# Altium schematic symbol library USB Connectors.SchLib: 41 symbols
Pins are listed as number, name and electrical type; pins without a type are passive.

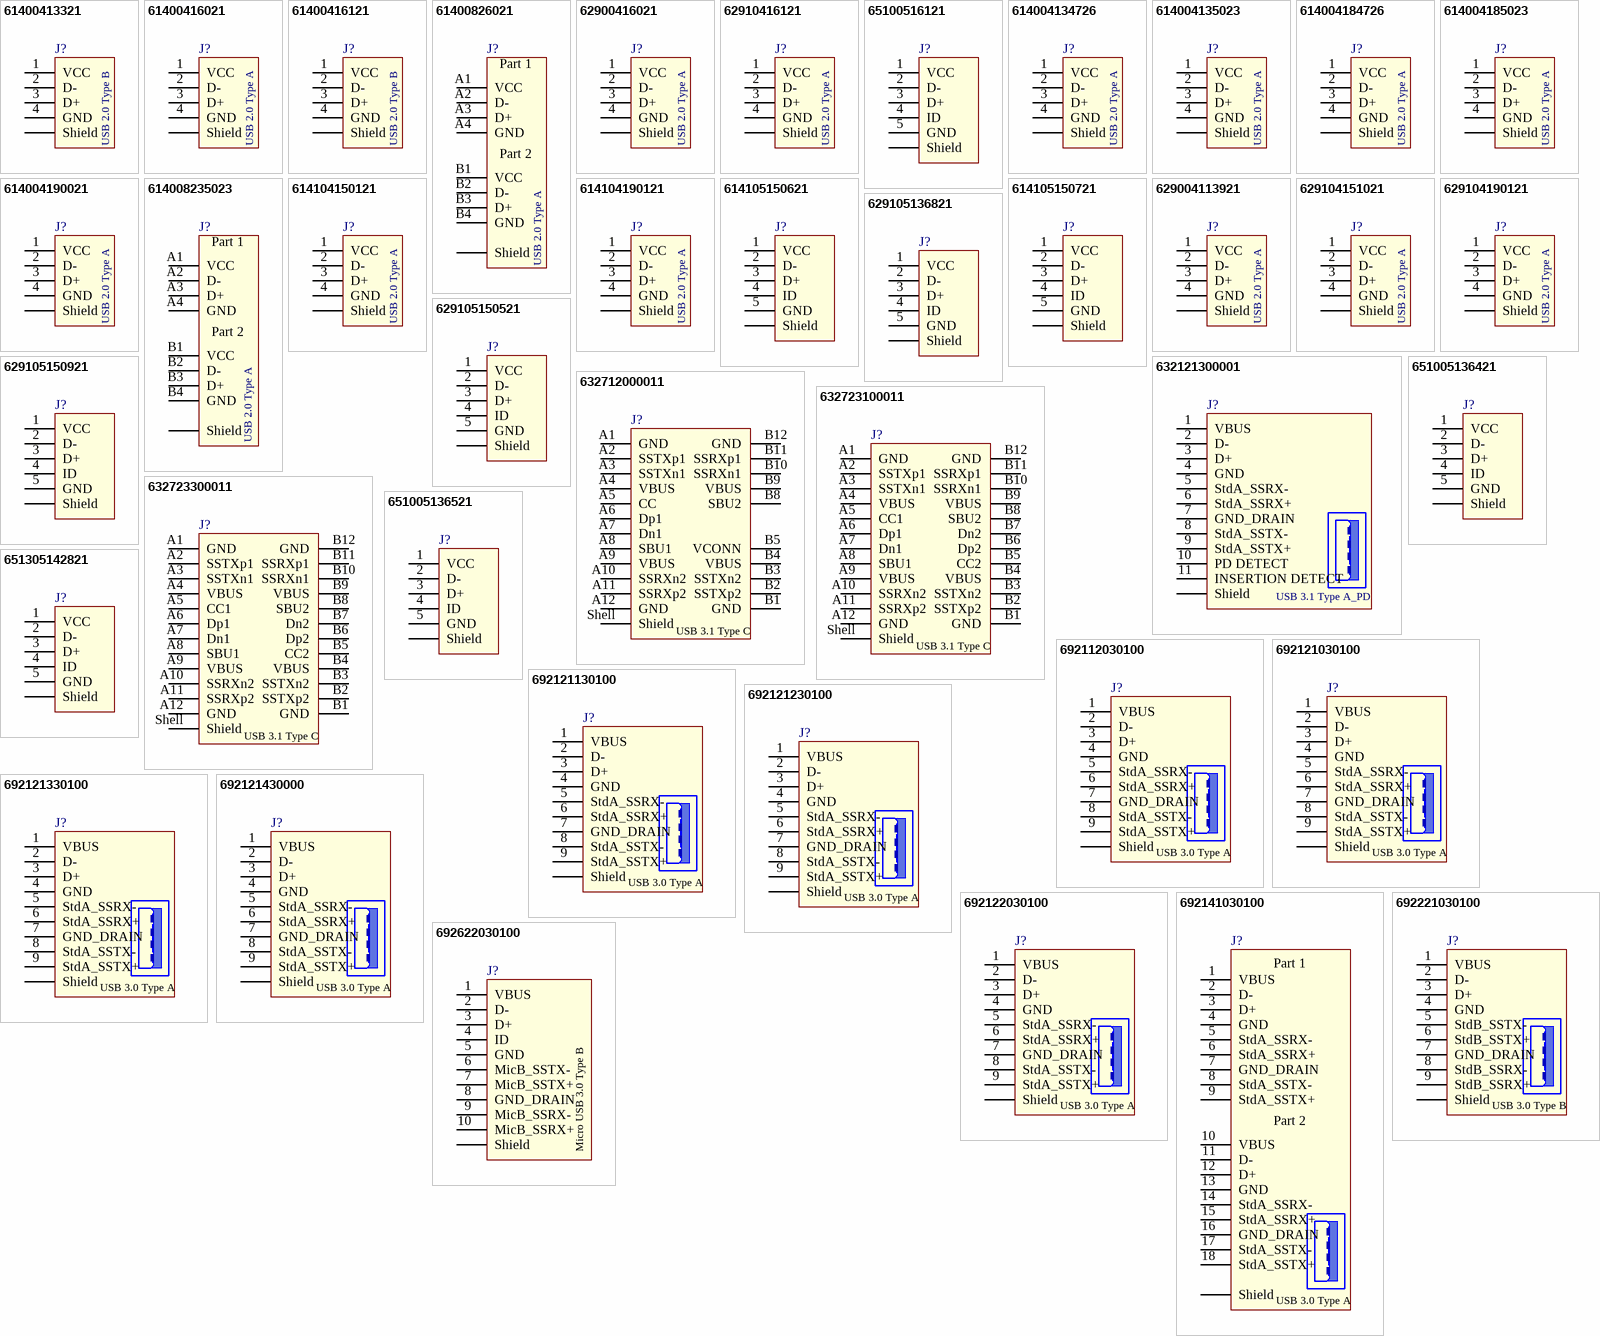
[diagram p0: symbols 61400413321 to 692622030100]

## 61400413321
designator J?
USB 2.0 Type B Vertical WR-COM; Part number: 61400413321; Vendor: Wurth Elektronik; Value: USB 2.0 Type B
footprint 61400413321 (USB 2.0 Type B Vertical)
pins: 1 VCC, 2 D-, 3 D+, 4 GND, Shell Shield

## 61400416021
designator J?
USB 2.0 Type A Horizontal WR-COM; Part number: 61400416021; Vendor: Wurth Elektronik; Value: USB 2.0 Type A
footprint 61400416021 (USB 2.0 Type A Horizontal)
pins: 1 VCC, 2 D-, 3 D+, 4 GND, Shell Shield

## 61400416121
designator J?
USB 2.0 Type B Horizontal WR-COM; Part number: 61400416121; Vendor: Wurth Elektronik; Value: USB 2.0 Type B
footprint 61400416121 (USB 2.0 Type B Horizontal)
pins: 1 VCC, 2 D-, 3 D+, 4 GND, Shell Shield

## 61400826021
designator J?
USB 2.0 Type A Horizontal Dual Stacked WR-COM; Part number: 61400826021; Vendor: Wurth Elektronik; Value: USB 2.0 Type A
footprint 61400826021 (USB 2.0 Type A Horizontal Dual Stacked)
pins: A1 VCC, A2 D-, A3 D+, A4 GND, B1 VCC, B2 D-, B3 D+, B4 GND, Shell Shield
text: Part 1; Part 2

## 62900416021
designator J?
USB 2.0 SMT Type A Horizontal WR-COM; Part number: 62900416021; Vendor: Wurth Elektronik; Value: USB 2.0 Type A
footprint 62900416021 (USB 2.0 SMT Type A Horizontal)
pins: 1 VCC, 2 D-, 3 D+, 4 GND, Shell Shield

## 62910416121
designator J?
USB 2.0 Type B SMT Horizontal WR-COM; Part number: 62910416121; Vendor: Wurth Elektronik; Value: USB 2.0 Type B
footprint 62910416121 (USB 2.0 Type B SMT Horizontal)
pins: 1 VCC, 2 D-, 3 D+, 4 GND, Shell Shield
text: USB 2.0 Type A

## 65100516121
designator J?
Mini USB 2.0 Type B SMT Horizontal 5 Contacts WR-COM; Part number: 65100516121; Vendor: Wurth Elektronik; Value: Mini USB 2.0 Type B
footprint 65100516121
pins: 1 VCC, 2 D-, 3 D+, 4 ID, 5 GND, Shell Shield

## 614004134726
designator J?
USB 2.0 Type A Up Right WR-COM; Part number: 614004134726; Vendor: Wurth Elektronik; Value: USB 2.0 Type A
footprint 614004134726 (USB 2.0 Type A Up Right)
pins: 1 VCC, 2 D-, 3 D+, 4 GND, Shell Shield

## 614004135023
designator J?
USB 2.0 Type A Vertical WR-COM; Part number: 614004135023; Vendor: Wurth Elektronik; Value: USB 2.0 Type A
footprint 614004135023 (USB 2.0 Type A Vertical)
pins: 1 VCC, 2 D-, 3 D+, 4 GND, Shell Shield

## 614004184726
designator J?
USB 2.0 Type A Up Right THT WR-COM; Part number: 614004184726; Vendor: Wurth Elektronik; Value: USB 2.0 Type A
footprint 614004184726 (USB 2.0 Type A Up Right THT)
pins: 1 VCC, 2 D-, 3 D+, 4 GND, Shell Shield

## 614004185023
designator J?
USB 2.0 Type A Vertical Short Type THT WR-COM; Part number: 614004185023; Vendor: Wurth Elektronik; Value: USB 2.0 Type A
footprint 614004185023 (USB 2.0 Type A Vertical Short Type THT)
pins: 1 VCC, 2 D-, 3 D+, 4 GND, Shell Shield

## 614004190021
designator J?
USB 2.0 Type A Horizontal THT WR-COM; Part number: 614004190021; Vendor: Wurth Elektronik; Value: USB 2.0 Type A
footprint 614004190021 (USB 2.0 Type A Horizontal THT)
pins: 1 VCC, 2 D-, 3 D+, 4 GND, Shell Shield

## 614008235023
designator J?
USB 2.0 Type A Vertical Dual WR-COM; Part number: 614008235023; Vendor: Wurth Elektronik; Value: USB 2.0 Type A
footprint 614008235023 (USB 2.0 Type A Vertical Dual)
pins: A1 VCC, A2 D-, A3 D+, A4 GND, B1 VCC, B2 D-, B3 D+, B4 GND, Shell Shield
text: Part 1; Part 2

## 614104150121
designator J?
USB 2.0 THT Type A Horizontal Slim Type WR-COM; Part number: 614104150121; Vendor: Wurth Elektronik; Value: USB 2.0 Type A
footprint 614104150121 (USB 2.0 THT Type A Horizontal Slim Type)
pins: 1 VCC, 2 D-, 3 D+, 4 GND, Shell Shield

## 614104190121
designator J?
USB 2.0 Type A Horizontal THT Short Type WR-COM; Part number: 614104190121; Vendor: Wurth Elektronik; Value: USB 2.0 Type A
footprint 614104190121 (USB 2.0 Type A Horizontal THT Short Type)
pins: 1 VCC, 2 D-, 3 D+, 4 GND, Shell Shield

## 614105150621
designator J?
Micro USB 2.0 Type AB Vertical 5 Contacts WR-COM; Part number: 614105150621; Vendor: Wurth Elektronik; Value: Micro USB 2.0 Type AB
footprint 614105150621 (Micro USB 2.0 Type AB Vertical 5 Contacts)
pins: 1 VCC, 2 D-, 3 D+, 4 ID, 5 GND, Shell Shield

## 614105150721
designator J?
Micro USB 2.0 Type B Vertical 5 Contacts WR-COM; Part number: 614105150721; Vendor: Wurth Elektronik; Value: Micro USB 2.0 Type B
footprint 614105150721 (Micro USB 2.0 Type B Vertical 5 Contacts)
pins: 1 VCC, 2 D-, 3 D+, 4 ID, 5 GND, Shell Shield

## 629004113921
designator J?
USB 2.0 Plug Type A SMT with Clip WR-COM; Part number: 629004113921; Vendor: Wurth Elektronik; Value: USB 2.0 Type A
footprint 629004113921 (USB 2.0 Plug Type A SMT with Clip)
pins: 1 VCC, 2 D-, 3 D+, 4 GND, Shell Shield

## 629104151021
designator J?
USB 2.0 Type A Horizontal SMT with pegs WR-COM; Part number: 629104151021; Vendor: Wurth Elektronik; Value: USB 2.0 Type A
footprint 629104151021 (USB 2.0 Type A Horizontal SMT with pegs)
pins: 1 VCC, 2 D-, 3 D+, 4 GND, Shell Shield

## 629104190121
designator J?
USB 2.0 Type A Horizontal SMT Short Type WR-COM; Part number: 629104190121; Vendor: Wurth Elektronik; Value: USB 2.0 Type A
footprint 629104190121 (USB 2.0 Type A Horizontal SMT Short Type)
pins: 1 VCC, 2 D-, 3 D+, 4 GND, Shell Shield

## 629105136821
designator J?
Micro USB 2.0 SMT Type B Horizontal 5 Contacts WR-COM; Part number: 629105136821; Vendor: Wurth Elektronik; Value: Micro USB 2.0 Type B
footprint 629105136821 (Micro USB 2.0 SMT Type B Horizontal 5 Contacts)
pins: 1 VCC, 2 D-, 3 D+, 4 ID, 5 GND, Shell Shield

## 629105150521
designator J?
Micro USB 2.0 SMT Type B Horizontal 5 Contacts High Current WR-COM; Part number: 629105150521; Vendor: Wurth Elektronik; Value: Micro USB 2.0 Type B
footprint 629105150521 (Micro USB 2.0 SMT Type B Horizontal 5 Contacts High Current)
pins: 1 VCC, 2 D-, 3 D+, 4 ID, 5 GND, Shell Shield

## 629105150921
designator J?
Micro USB 2.0 Type AB Horizontal WR-COM; Part number: 629105150921; Vendor: Wurth Elektronik; Value: Micro USB 2.0 Type AB
footprint 629105150921 (Micro USB 2.0 Type AB Horizontal)
pins: 1 VCC, 2 D-, 3 D+, 4 ID, 5 GND, Shell Shield

## 632121300001
designator J?
WR-COM USB 3.1 Type A Receptacle Horizontal THT Power Delivery; Part number: 632121300001; Vendor: Wurth Elektronik; Value: USB 3.1 Type A
footprint 632121300001 (USB 3.1 Type A Receptacle Horizontal THT Power Delivery)
pins: 1 VBUS, 2 D-, 3 D+, 4 GND, 5 StdA_SSRX-, 6 StdA_SSRX+, 7 GND_DRAIN, 8 StdA_SSTX-, 9 StdA_SSTX+, 10 PD DETECT, 11 INSERTION DETECT, Shell Shield
text: USB 3.1 Type A_PD

## 632712000011
designator J?
USB 3.1 Type C Plug Horizontal SMT WR-COM; Part number: 632712000011; Vendor: Wurth Elektronik; Value: USB 3.1 Type C
footprint 632712000011
pins: A1 GND, A2 SSTXp1, A3 SSTXn1, A4 VBUS, A5 CC, A6 Dp1, A7 Dn1, A8 SBU1, A9 VBUS, A10 SSRXn2, A11 SSRXp2, A12 GND, B1 GND, B2 SSTXp2, B3 SSTXn2, B4 VBUS, B5 VCONN, B8 SBU2, B9 VBUS, B10 SSRXn1, B11 SSRXp1, B12 GND, Shell Shield

## 632723100011
designator J?
USB 3.1 Type C Receptacle Horizontal THR WR-COM; Part number: 632723100011; Vendor: Wurth Elektronik; Value: USB 3.1 Type C
footprint 632723100011
pins: A1 GND, A2 SSTXp1, A3 SSTXn1, A4 VBUS, A5 CC1, A6 Dp1, A7 Dn1, A8 SBU1, A9 VBUS, A10 SSRXn2, A11 SSRXp2, A12 GND, B1 GND, B2 SSTXp2, B3 SSTXn2, B4 VBUS, B5 CC2, B6 Dp2, B7 Dn2, B8 SBU2, B9 VBUS, B10 SSRXn1, B11 SSRXp1, B12 GND, Shell Shield

## 632723300011
designator J?
USB 3.1 Type C Receptacle Horizontal THR WR-COM; Part number: 632723300011; Vendor: Wurth Elektronik; Value: USB 3.1 Type C
footprint 632723300011
pins: A1 GND, A2 SSTXp1, A3 SSTXn1, A4 VBUS, A5 CC1, A6 Dp1, A7 Dn1, A8 SBU1, A9 VBUS, A10 SSRXn2, A11 SSRXp2, A12 GND, B1 GND, B2 SSTXp2, B3 SSTXn2, B4 VBUS, B5 CC2, B6 Dp2, B7 Dn2, B8 SBU2, B9 VBUS, B10 SSRXn1, B11 SSRXp1, B12 GND, Shell Shield

## 651005136421
designator J?
Mini USB 2.0 Type B Vertical 5 Contacts WR-COM; Part number: 651005136421; Vendor: Wurth Elektronik; Value: Mini USB 2.0 Type B
footprint 651005136421
pins: 1 VCC, 2 D-, 3 D+, 4 ID, 5 GND, Shell Shield

## 651005136521
designator J?
Mini USB 2.0 Type B Horizontal 5 Contacts WR-COM; Part number: 651005136521; Vendor: Wurth Elektronik; Value: Mini USB 2.0 Type B
footprint 651005136521
pins: 1 VCC, 2 D-, 3 D+, 4 ID, 5 GND, Shell Shield

## 651305142821
designator J?
Mini USB 2.0 Type AB SMT Horizontal 5 Contacts WR-COM; Part number: 651305142821; Vendor: Wurth Elektronik; Value: Mini USB 2.0 Type AB
footprint 651305142821
pins: 1 VCC, 2 D-, 3 D+, 4 ID, 5 GND, Shell Shield

## 692112030100
designator J?
USB 3.0 Type A SMT Plug with Clip WR-COM; Part number: 692112030100; Vendor: Wurth Elektronik; Value: USB 3.0 Type A
footprint 692112030100
pins: 1 VBUS, 2 D-, 3 D+, 4 GND, 5 StdA_SSRX-, 6 StdA_SSRX+, 7 GND_DRAIN, 8 StdA_SSTX-, 9 StdA_SSTX+, Shell Shield

## 692121030100
designator J?
USB 3.0 Type A Horizontal WR-COM; Part number: 692121030100; Vendor: Wurth Elektronik; Value: USB 3.0 Type A
footprint 692121030100
pins: 1 VBUS, 2 D-, 3 D+, 4 GND, 5 StdA_SSRX-, 6 StdA_SSRX+, 7 GND_DRAIN, 8 StdA_SSTX-, 9 StdA_SSTX+, Shell Shield

## 692121130100
designator J?
USB 3.0 Type A Reverse Horizontal w. Offset 0.14mm WR-COM; Part number: 692121130100; Vendor: Wurth Elektronik; Value: USB 3.0 Type A
footprint 692121130100
pins: 1 VBUS, 2 D-, 3 D+, 4 GND, 5 StdA_SSRX-, 6 StdA_SSRX+, 7 GND_DRAIN, 8 StdA_SSTX-, 9 StdA_SSTX+, Shell Shield

## 692121230100
designator J?
USB 3.0 Type A Horizontal with Offset 1.04mm WR-COM; Part number: 692121230100; Vendor: Wurth Elektronik; Value: USB 3.0 Type A
footprint 692121230100
pins: 1 VBUS, 2 D-, 3 D+, 4 GND, 5 StdA_SSRX-, 6 StdA_SSRX+, 7 GND_DRAIN, 8 StdA_SSTX-, 9 StdA_SSTX+, Shell Shield

## 692121330100
designator J?
USB 3.0 Type A Reverse Horizontal with Offset 1.75mm WR-COM; Part number: 692121330100; Vendor: Wurth Elektronik; Value: USB 3.0 Type A
footprint 692121330100
pins: 1 VBUS, 2 D-, 3 D+, 4 GND, 5 StdA_SSRX-, 6 StdA_SSRX+, 7 GND_DRAIN, 8 StdA_SSTX-, 9 StdA_SSTX+, Shell Shield

## 692121430000
designator J?
USB 3.0 Type A Vertical THT WR-COM; Part number: 692121430000; Vendor: Wurth Elektronik; Value: USB 3.0 Type A
footprint 692121430000
pins: 1 VBUS, 2 D-, 3 D+, 4 GND, 5 StdA_SSRX-, 6 StdA_SSRX+, 7 GND_DRAIN, 8 StdA_SSTX-, 9 StdA_SSTX+, Shell Shield

## 692122030100
designator J?
USB 3.0 Type A Horizontal SMD WR-COM; Part number: 692122030100; Vendor: Wurth Elektronik; Value: USB 3.0 Type A
footprint 692122030100
pins: 1 VBUS, 2 D-, 3 D+, 4 GND, 5 StdA_SSRX-, 6 StdA_SSRX+, 7 GND_DRAIN, 8 StdA_SSTX-, 9 StdA_SSTX+, Shell Shield

## 692141030100
designator J?
USB 3.0 Type A Stacked WR-COM; Part number: 692141030100; Vendor: Wurth Elektronik; Value: USB 3.0 Type A
footprint 692141030100
pins: 1 VBUS, 2 D-, 3 D+, 4 GND, 5 StdA_SSRX-, 6 StdA_SSRX+, 7 GND_DRAIN, 8 StdA_SSTX-, 9 StdA_SSTX+, 10 VBUS, 11 D-, 12 D+, 13 GND, 14 StdA_SSRX-, 15 StdA_SSRX+, 16 GND_DRAIN, 17 StdA_SSTX-, 18 StdA_SSTX+, Shell Shield
text: Part 1; Part 2

## 692221030100
designator J?
USB 3.0 Type B Horizontal WR-COM; Part number: 692221030100; Vendor: Wurth Elektronik; Value: USB 3.0 Type B
footprint 692221030100
pins: 1 VBUS, 2 D-, 3 D+, 4 GND, 5 StdB_SSTX-, 6 StdB_SSTX+, 7 GND_DRAIN, 8 StdB_SSRX-, 9 StdB_SSRX+, Shell Shield

## 692622030100
designator J?
Micro USB 3.0 Type B Horizontal SMT WR-COM; Part number: 692622030100; Vendor: Wurth Elektronik; Value: Micro USB 3.0 Type B
footprint 692622030100
pins: 1 VBUS, 2 D-, 3 D+, 4 ID, 5 GND, 6 MicB_SSTX-, 7 MicB_SSTX+, 8 GND_DRAIN, 9 MicB_SSRX-, 10 MicB_SSRX+, Shell Shield

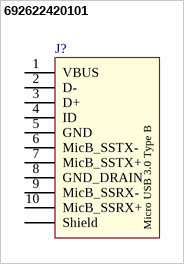
[diagram p1: symbol 692622420101]

## 692622420101
designator J?
Micro USB 3.0 Type B Vertical SMT WR-COM; Part number: 692622420101; Vendor: Wurth Elektronik; Value: Micro USB 3.0 Type B
footprint 692622420101
pins: 1 VBUS, 2 D-, 3 D+, 4 ID, 5 GND, 6 MicB_SSTX-, 7 MicB_SSTX+, 8 GND_DRAIN, 9 MicB_SSRX-, 10 MicB_SSRX+, Shell Shield